# Altium schematic symbol library Capacitor - Aluminium.SchLib: 294 symbols (part 5 of 5)
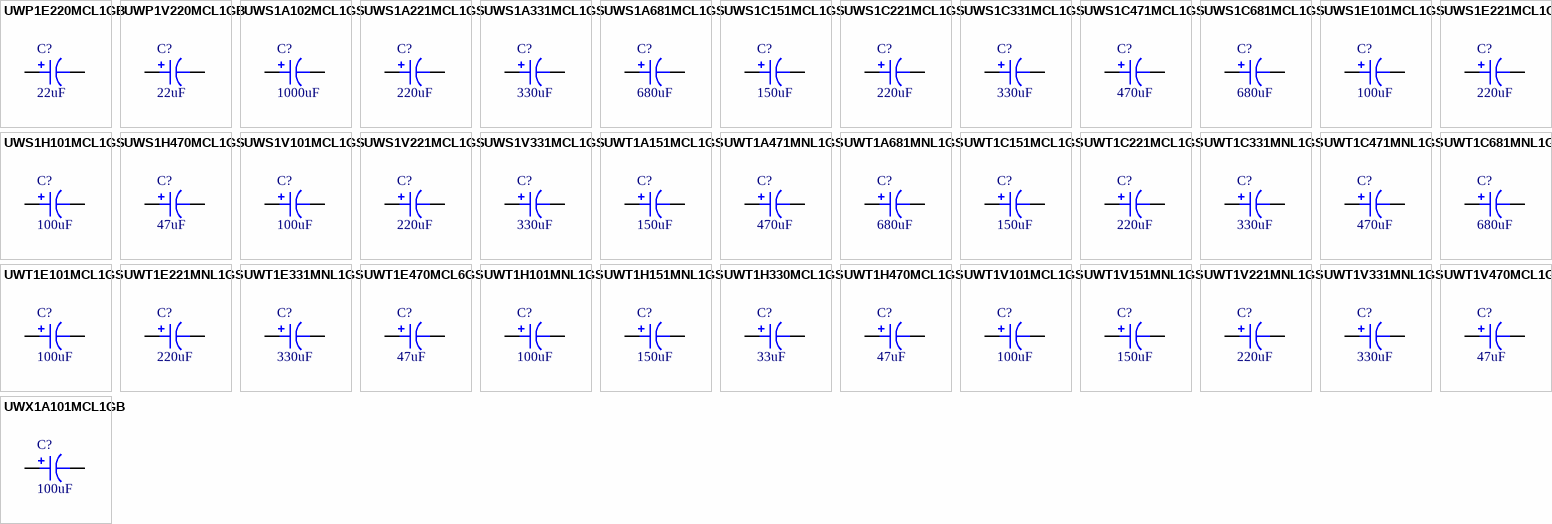
[diagram p11: symbols UWP1E220MCL1GB to UWX1A101MCL1GB]

## UWT1E470MCL6GS
designator C?, comment 47uF
CAP ALUM 47UF 20% 25V SMD; Part Number: UWT1E470MCL6GS; Manufacturer: Nichicon; TemperatureRange: -55C ~ 105C; Type: General Purpose; Ripple Current: 59mA; Lifetime @ Temp: 1000 Hrs @ 105C; Value: 47uF; PartId: 7297; Supplier 1: Digi-Key; Supplier Part Number 1: 493-9881-2-ND; ComponentLink1Description: Datasheet; ComponentLink1URL: http://nichicon-us.com/english/products/pdfs/e-wt.pdf; ComponentLink2Description: Digi-Key listing; ComponentLink2URL: http://digikey.com/product-detail/en/UWT1E470MCL6GS/493-9881-2-ND/2550848; Tolerance: 20%; Voltage: 25V; Price: 0.0964; Device Package: Radial, Can - SMD; Impedance: -
footprint CAP ALUM 8.3MM
pins: 1, 2

## UWT1H101MNL1GS
designator C?, comment 100uF
CAP ALUM 100UF 20% 50V SMD; Part Number: UWT1H101MNL1GS; Manufacturer: Nichicon; TemperatureRange: -55C ~ 105C; Type: General Purpose; Ripple Current: 140mA; Lifetime @ Temp: 1000 Hrs @ 105C; Value: 100uF; PartId: 7285; Supplier 1: Digi-Key; Supplier Part Number 1: 493-2226-2-ND; ComponentLink1Description: Datasheet; ComponentLink1URL: http://nichicon-us.com/english/products/pdfs/e-wt.pdf; ComponentLink2Description: Digi-Key listing; ComponentLink2URL: http://digikey.com/product-detail/en/UWT1H101MNL1GS/493-2226-2-ND/589967; Tolerance: 20%; Voltage: 50V; Price: 0.2178; Device Package: Radial, Can - SMD; Impedance: -
footprint CAP ALUM 8.3MM
pins: 1, 2

## UWT1H151MNL1GS
designator C?, comment 150uF
CAP ALUM 150UF 20% 50V SMD; Part Number: UWT1H151MNL1GS; Manufacturer: Nichicon; TemperatureRange: -55C ~ 105C; Type: General Purpose; Ripple Current: 180mA; Lifetime @ Temp: 1000 Hrs @ 105C; Value: 150uF; PartId: 7389; Supplier 1: Digi-Key; Supplier Part Number 1: 493-2227-2-ND; ComponentLink1Description: Datasheet; ComponentLink1URL: http://nichicon-us.com/english/products/pdfs/e-wt.pdf; ComponentLink2Description: Digi-Key listing; ComponentLink2URL: http://digikey.com/product-detail/en/UWT1H151MNL1GS/493-2227-2-ND/589968; Tolerance: 20%; Voltage: 50V; Price: 0.2685; Device Package: Radial, Can - SMD; Impedance: -
footprint CAP ALUM 10.3MM
pins: 1, 2

## UWT1H330MCL1GS
designator C?, comment 33uF
CAP ALUM 33UF 20% 50V SMD; Part Number: UWT1H330MCL1GS; Manufacturer: Nichicon; TemperatureRange: -55C ~ 105C; Type: General Purpose; Ripple Current: 60mA; Lifetime @ Temp: 1000 Hrs @ 105C; Value: 33uF; PartId: 7213; Supplier 1: Digi-Key; Supplier Part Number 1: 493-2224-2-ND; ComponentLink1Description: Datasheet; ComponentLink1URL: http://nichicon-us.com/english/products/pdfs/e-wt.pdf; ComponentLink2Description: Digi-Key listing; ComponentLink2URL: http://digikey.com/product-detail/en/UWT1H330MCL1GS/493-2224-2-ND/589965; Tolerance: 20%; Voltage: 50V; Price: 0.1294; Device Package: Radial, Can - SMD; Impedance: -
footprint CAP ALUM 6.6MM
pins: 1, 2

## UWT1H470MCL1GS
designator C?, comment 47uF
CAP ALUM 47UF 20% 50V SMD; Part Number: UWT1H470MCL1GS; Manufacturer: Nichicon; TemperatureRange: -55C ~ 105C; Type: General Purpose; Ripple Current: 63mA; Lifetime @ Temp: 1000 Hrs @ 105C; Value: 47uF; PartId: 7227; Supplier 1: Digi-Key; Supplier Part Number 1: 493-2225-2-ND; ComponentLink1Description: Datasheet; ComponentLink1URL: http://nichicon-us.com/english/products/pdfs/e-wt.pdf; ComponentLink2Description: Digi-Key listing; ComponentLink2URL: http://digikey.com/product-detail/en/UWT1H470MCL1GS/493-2225-2-ND/589966; Tolerance: 20%; Voltage: 50V; Price: 0.154; Device Package: Radial, Can - SMD; Impedance: -
footprint CAP ALUM 6.6MM
pins: 1, 2

## UWT1V101MCL1GS
designator C?, comment 100uF
CAP ALUM 100UF 20% 35V SMD; Part Number: UWT1V101MCL1GS; Manufacturer: Nichicon; TemperatureRange: -55C ~ 105C; Type: General Purpose; Ripple Current: 84mA; Lifetime @ Temp: 1000 Hrs @ 105C; Value: 100uF; PartId: 7214; Supplier 1: Digi-Key; Supplier Part Number 1: 493-2203-2-ND; ComponentLink1Description: Datasheet; ComponentLink1URL: http://nichicon-us.com/english/products/pdfs/e-wt.pdf; ComponentLink2Description: Digi-Key listing; ComponentLink2URL: http://digikey.com/product-detail/en/UWT1V101MCL1GS/493-2203-2-ND/589944; Tolerance: 20%; Voltage: 35V; Price: 0.1299; Device Package: Radial, Can - SMD; Impedance: -
footprint CAP ALUM 6.6MM
pins: 1, 2

## UWT1V151MNL1GS
designator C?, comment 150uF
CAP ALUM 150UF 20% 35V SMD; Part Number: UWT1V151MNL1GS; Manufacturer: Nichicon; TemperatureRange: -55C ~ 105C; Type: General Purpose; Ripple Current: 155mA; Lifetime @ Temp: 1000 Hrs @ 105C; Value: 150uF; PartId: 7289; Supplier 1: Digi-Key; Supplier Part Number 1: 493-2204-2-ND; ComponentLink1Description: Datasheet; ComponentLink1URL: http://nichicon-us.com/english/products/pdfs/e-wt.pdf; ComponentLink2Description: Digi-Key listing; ComponentLink2URL: http://digikey.com/product-detail/en/UWT1V151MNL1GS/493-2204-2-ND/589945; Tolerance: 20%; Voltage: 35V; Price: 0.2201; Device Package: Radial, Can - SMD; Impedance: -
footprint CAP ALUM 8.3MM
pins: 1, 2

## UWT1V221MNL1GS
designator C?, comment 220uF
CAP ALUM 220UF 20% 35V SMD; Part Number: UWT1V221MNL1GS; Manufacturer: Nichicon; TemperatureRange: -55C ~ 105C; Type: General Purpose; Ripple Current: 190mA; Lifetime @ Temp: 1000 Hrs @ 105C; Value: 220uF; PartId: 7288; Supplier 1: Digi-Key; Supplier Part Number 1: 493-2205-2-ND; ComponentLink1Description: Datasheet; ComponentLink1URL: http://nichicon-us.com/english/products/pdfs/e-wt.pdf; ComponentLink2Description: Digi-Key listing; ComponentLink2URL: http://digikey.com/product-detail/en/UWT1V221MNL1GS/493-2205-2-ND/589946; Tolerance: 20%; Voltage: 35V; Price: 0.2201; Device Package: Radial, Can - SMD; Impedance: -
footprint CAP ALUM 8.3MM
pins: 1, 2

## UWT1V331MNL1GS
designator C?, comment 330uF
CAP ALUM 330UF 20% 35V SMD; Part Number: UWT1V331MNL1GS; Manufacturer: Nichicon; TemperatureRange: -55C ~ 105C; Type: General Purpose; Ripple Current: 300mA; Lifetime @ Temp: 1000 Hrs @ 105C; Value: 330uF; PartId: 7386; Supplier 1: Digi-Key; Supplier Part Number 1: 493-2206-2-ND; ComponentLink1Description: Datasheet; ComponentLink1URL: http://nichicon-us.com/english/products/pdfs/e-wt.pdf; ComponentLink2Description: Digi-Key listing; ComponentLink2URL: http://digikey.com/product-detail/en/UWT1V331MNL1GS/493-2206-2-ND/589947; Tolerance: 20%; Voltage: 35V; Price: 0.2685; Device Package: Radial, Can - SMD; Impedance: -
footprint CAP ALUM 10.3MM
pins: 1, 2

## UWT1V470MCL1GS
designator C?, comment 47uF
CAP ALUM 47UF 20% 35V SMD; Part Number: UWT1V470MCL1GS; Manufacturer: Nichicon; TemperatureRange: -55C ~ 105C; Type: General Purpose; Ripple Current: 63mA; Lifetime @ Temp: 1000 Hrs @ 105C; Value: 47uF; PartId: 7200; Supplier 1: Digi-Key; Supplier Part Number 1: 493-2202-2-ND; ComponentLink1Description: Datasheet; ComponentLink1URL: http://nichicon-us.com/english/products/pdfs/e-wt.pdf; ComponentLink2Description: Digi-Key listing; ComponentLink2URL: http://digikey.com/product-detail/en/UWT1V470MCL1GS/493-2202-2-ND/589943; Tolerance: 20%; Voltage: 35V; Price: 0.1117; Device Package: Radial, Can - SMD; Impedance: -
footprint CAP ALUM 6.6MM
pins: 1, 2

## UWX1A101MCL1GB
designator C?, comment 100uF
CAP ALUM 100UF 20% 10V SMD; Part Number: UWX1A101MCL1GB; Manufacturer: Nichicon; TemperatureRange: -40C ~ 85C; Type: General Purpose; Ripple Current: 76mA; Lifetime @ Temp: 2000 Hrs @ 85C; Value: 100uF; PartId: 7195; Supplier 1: Digi-Key; Supplier Part Number 1: 493-2096-2-ND; ComponentLink1Description: Datasheet; ComponentLink1URL: http://nichicon-us.com/english/products/pdfs/e-wx.pdf; ComponentLink2Description: Digi-Key listing; ComponentLink2URL: http://digikey.com/product-detail/en/UWX1A101MCL1GB/493-2096-2-ND/589837; Tolerance: 20%; Voltage: 10V; Price: 0.1042; Device Package: Radial, Can - SMD; Impedance: -
footprint CAP ALUM 6.6MM
pins: 1, 2

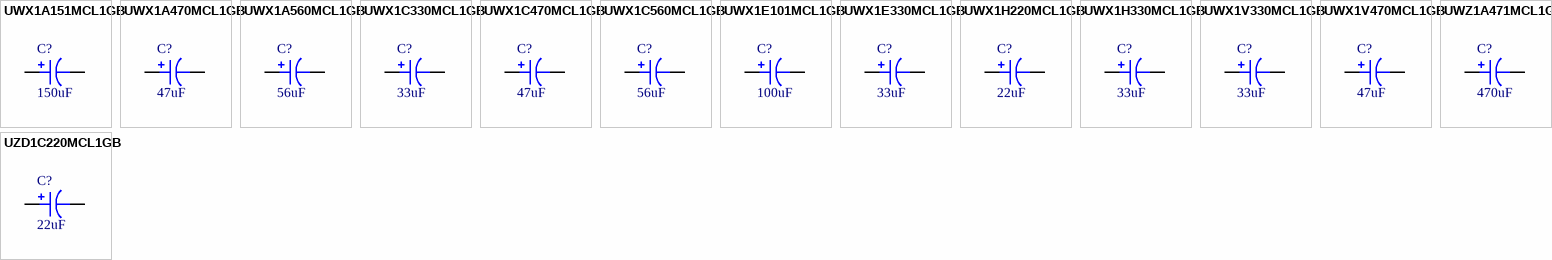
[diagram p7: symbols UWX1A151MCL1GB to UZD1C220MCL1GB]

## UWX1A151MCL1GB
designator C?, comment 150uF
CAP ALUM 150UF 20% 10V SMD; Part Number: UWX1A151MCL1GB; Manufacturer: Nichicon; TemperatureRange: -40C ~ 85C; Type: General Purpose; Ripple Current: 111mA; Lifetime @ Temp: 2000 Hrs @ 85C; Value: 150uF; PartId: 7302; Supplier 1: Digi-Key; Supplier Part Number 1: 493-2097-2-ND; ComponentLink1Description: Datasheet; ComponentLink1URL: http://nichicon-us.com/english/products/pdfs/e-wx.pdf; ComponentLink2Description: Digi-Key listing; ComponentLink2URL: http://digikey.com/product-detail/en/UWX1A151MCL1GB/493-2097-2-ND/589838; Tolerance: 20%; Voltage: 10V; Price: 0.1286; Device Package: Radial, Can - SMD; Impedance: -
footprint CAP ALUM 8.3MM
pins: 1, 2

## UWX1A470MCL1GB
designator C?, comment 47uF
CAP ALUM 47UF 20% 10V SMD; Part Number: UWX1A470MCL1GB; Manufacturer: Nichicon; TemperatureRange: -40C ~ 85C; Type: General Purpose; Ripple Current: 52mA; Lifetime @ Temp: 2000 Hrs @ 85C; Value: 47uF; PartId: 7194; Supplier 1: Digi-Key; Supplier Part Number 1: 493-2094-2-ND; ComponentLink1Description: Datasheet; ComponentLink1URL: http://nichicon-us.com/english/products/pdfs/e-wx.pdf; ComponentLink2Description: Digi-Key listing; ComponentLink2URL: http://digikey.com/product-detail/en/UWX1A470MCL1GB/493-2094-2-ND/589835; Tolerance: 20%; Voltage: 10V; Price: 0.1042; Device Package: Radial, Can - SMD; Impedance: -
footprint CAP ALUM 6.6MM
pins: 1, 2

## UWX1A560MCL1GB
designator C?, comment 56uF
CAP ALUM 56UF 20% 10V SMD; Part Number: UWX1A560MCL1GB; Manufacturer: Nichicon; TemperatureRange: -40C ~ 85C; Type: General Purpose; Ripple Current: 57mA; Lifetime @ Temp: 2000 Hrs @ 85C; Value: 56uF; PartId: 7197; Supplier 1: Digi-Key; Supplier Part Number 1: 493-2095-2-ND; ComponentLink1Description: Datasheet; ComponentLink1URL: http://nichicon-us.com/english/products/pdfs/e-wx.pdf; ComponentLink2Description: Digi-Key listing; ComponentLink2URL: http://digikey.com/product-detail/en/UWX1A560MCL1GB/493-2095-2-ND/589836; Tolerance: 20%; Voltage: 10V; Price: 0.1042; Device Package: Radial, Can - SMD; Impedance: -
footprint CAP ALUM 6.6MM
pins: 1, 2

## UWX1C330MCL1GB
designator C?, comment 33uF
CAP ALUM 33UF 20% 16V SMD; Part Number: UWX1C330MCL1GB; Manufacturer: Nichicon; TemperatureRange: -40C ~ 85C; Type: General Purpose; Ripple Current: 49mA; Lifetime @ Temp: 2000 Hrs @ 85C; Value: 33uF; PartId: 7190; Supplier 1: Digi-Key; Supplier Part Number 1: 493-2102-2-ND; ComponentLink1Description: Datasheet; ComponentLink1URL: http://nichicon-us.com/english/products/pdfs/e-wx.pdf; ComponentLink2Description: Digi-Key listing; ComponentLink2URL: http://digikey.com/product-detail/en/UWX1C330MCL1GB/493-2102-2-ND/589843; Tolerance: 20%; Voltage: 16V; Price: 0.0916; Device Package: Radial, Can - SMD; Impedance: -
footprint CAP ALUM 6.6MM
pins: 1, 2

## UWX1C470MCL1GB
designator C?, comment 47uF
CAP ALUM 47UF 20% 16V SMD; Part Number: UWX1C470MCL1GB; Manufacturer: Nichicon; TemperatureRange: -40C ~ 85C; Type: General Purpose; Ripple Current: 58mA; Lifetime @ Temp: 2000 Hrs @ 85C; Value: 47uF; PartId: 7191; Supplier 1: Digi-Key; Supplier Part Number 1: 493-2103-2-ND; ComponentLink1Description: Datasheet; ComponentLink1URL: http://nichicon-us.com/english/products/pdfs/e-wx.pdf; ComponentLink2Description: Digi-Key listing; ComponentLink2URL: http://digikey.com/product-detail/en/UWX1C470MCL1GB/493-2103-2-ND/589844; Tolerance: 20%; Voltage: 16V; Price: 0.0994; Device Package: Radial, Can - SMD; Impedance: -
footprint CAP ALUM 6.6MM
pins: 1, 2

## UWX1C560MCL1GB
designator C?, comment 56uF
CAP ALUM 56UF 20% 16V SMD; Part Number: UWX1C560MCL1GB; Manufacturer: Nichicon; TemperatureRange: -40C ~ 85C; Type: General Purpose; Ripple Current: 63mA; Lifetime @ Temp: 2000 Hrs @ 85C; Value: 56uF; PartId: 7198; Supplier 1: Digi-Key; Supplier Part Number 1: 493-2104-2-ND; ComponentLink1Description: Datasheet; ComponentLink1URL: http://nichicon-us.com/english/products/pdfs/e-wx.pdf; ComponentLink2Description: Digi-Key listing; ComponentLink2URL: http://digikey.com/product-detail/en/UWX1C560MCL1GB/493-2104-2-ND/589845; Tolerance: 20%; Voltage: 16V; Price: 0.1042; Device Package: Radial, Can - SMD; Impedance: -
footprint CAP ALUM 6.6MM
pins: 1, 2

## UWX1E101MCL1GB
designator C?, comment 100uF
CAP ALUM 100UF 20% 25V SMD; Part Number: UWX1E101MCL1GB; Manufacturer: Nichicon; TemperatureRange: -40C ~ 85C; Type: General Purpose; Ripple Current: 110mA; Lifetime @ Temp: 2000 Hrs @ 85C; Value: 100uF; PartId: 7303; Supplier 1: Digi-Key; Supplier Part Number 1: 493-2113-2-ND; ComponentLink1Description: Datasheet; ComponentLink1URL: http://nichicon-us.com/english/products/pdfs/e-wx.pdf; ComponentLink2Description: Digi-Key listing; ComponentLink2URL: http://digikey.com/product-detail/en/UWX1E101MCL1GB/493-2113-2-ND/589854; Tolerance: 20%; Voltage: 25V; Price: 0.1297; Device Package: Radial, Can - SMD; Impedance: -
footprint CAP ALUM 8.3MM
pins: 1, 2

## UWX1E330MCL1GB
designator C?, comment 33uF
CAP ALUM 33UF 20% 25V SMD; Part Number: UWX1E330MCL1GB; Manufacturer: Nichicon; TemperatureRange: -40C ~ 85C; Type: General Purpose; Ripple Current: 52mA; Lifetime @ Temp: 2000 Hrs @ 85C; Value: 33uF; PartId: 7196; Supplier 1: Digi-Key; Supplier Part Number 1: 493-2110-2-ND; ComponentLink1Description: Datasheet; ComponentLink1URL: http://nichicon-us.com/english/products/pdfs/e-wx.pdf; ComponentLink2Description: Digi-Key listing; ComponentLink2URL: http://digikey.com/product-detail/en/UWX1E330MCL1GB/493-2110-2-ND/589851; Tolerance: 20%; Voltage: 25V; Price: 0.1042; Device Package: Radial, Can - SMD; Impedance: -
footprint CAP ALUM 6.6MM
pins: 1, 2

## UWX1H220MCL1GB
designator C?, comment 22uF
CAP ALUM 22UF 20% 50V SMD; Part Number: UWX1H220MCL1GB; Manufacturer: Nichicon; TemperatureRange: -40C ~ 85C; Type: General Purpose; Ripple Current: 52mA; Lifetime @ Temp: 2000 Hrs @ 85C; Value: 22uF; PartId: 7298; Supplier 1: Digi-Key; Supplier Part Number 1: 493-2136-2-ND; ComponentLink1Description: Datasheet; ComponentLink1URL: http://nichicon-us.com/english/products/pdfs/e-wx.pdf; ComponentLink2Description: Digi-Key listing; ComponentLink2URL: http://digikey.com/product-detail/en/UWX1H220MCL1GB/493-2136-2-ND/589877; Tolerance: 20%; Voltage: 50V; Price: 0.1154; Device Package: Radial, Can - SMD; Impedance: -
footprint CAP ALUM 8.3MM
pins: 1, 2

## UWX1H330MCL1GB
designator C?, comment 33uF
CAP ALUM 33UF 20% 50V SMD; Part Number: UWX1H330MCL1GB; Manufacturer: Nichicon; TemperatureRange: -40C ~ 85C; Type: General Purpose; Ripple Current: 71mA; Lifetime @ Temp: 2000 Hrs @ 85C; Value: 33uF; PartId: 7301; Supplier 1: Digi-Key; Supplier Part Number 1: 493-2137-2-ND; ComponentLink1Description: Datasheet; ComponentLink1URL: http://nichicon-us.com/english/products/pdfs/e-wx.pdf; ComponentLink2Description: Digi-Key listing; ComponentLink2URL: http://digikey.com/product-detail/en/UWX1H330MCL1GB/493-2137-2-ND/589878; Tolerance: 20%; Voltage: 50V; Price: 0.1181; Device Package: Radial, Can - SMD; Impedance: -
footprint CAP ALUM 8.3MM
pins: 1, 2

## UWX1V330MCL1GB
designator C?, comment 33uF
CAP ALUM 33UF 20% 35V SMD; Part Number: UWX1V330MCL1GB; Manufacturer: Nichicon; TemperatureRange: -40C ~ 85C; Type: General Purpose; Ripple Current: 62mA; Lifetime @ Temp: 2000 Hrs @ 85C; Value: 33uF; PartId: 7299; Supplier 1: Digi-Key; Supplier Part Number 1: 493-2119-2-ND; ComponentLink1Description: Datasheet; ComponentLink1URL: http://nichicon-us.com/english/products/pdfs/e-wx.pdf; ComponentLink2Description: Digi-Key listing; ComponentLink2URL: http://digikey.com/product-detail/en/UWX1V330MCL1GB/493-2119-2-ND/589860; Tolerance: 20%; Voltage: 35V; Price: 0.1154; Device Package: Radial, Can - SMD; Impedance: -
footprint CAP ALUM 8.3MM
pins: 1, 2

## UWX1V470MCL1GB
designator C?, comment 47uF
CAP ALUM 47UF 20% 35V SMD; Part Number: UWX1V470MCL1GB; Manufacturer: Nichicon; TemperatureRange: -40C ~ 85C; Type: General Purpose; Ripple Current: 80mA; Lifetime @ Temp: 2000 Hrs @ 85C; Value: 47uF; PartId: 7300; Supplier 1: Digi-Key; Supplier Part Number 1: 493-2120-2-ND; ComponentLink1Description: Datasheet; ComponentLink1URL: http://nichicon-us.com/english/products/pdfs/e-wx.pdf; ComponentLink2Description: Digi-Key listing; ComponentLink2URL: http://digikey.com/product-detail/en/UWX1V470MCL1GB/493-2120-2-ND/589861; Tolerance: 20%; Voltage: 35V; Price: 0.1163; Device Package: Radial, Can - SMD; Impedance: -
footprint CAP ALUM 8.3MM
pins: 1, 2

## UWZ1A471MCL1GS
designator C?, comment 470uF
CAP ALUM 470UF 20% 10V SMD; Part Number: UWZ1A471MCL1GS; Manufacturer: Nichicon; TemperatureRange: -55C ~ 105C; Type: High Temperature Reflow; Ripple Current: 210mA; Lifetime @ Temp: 1000 Hrs @ 105C; Value: 470uF; PartId: 7327; Supplier 1: Digi-Key; Supplier Part Number 1: 493-9923-2-ND; ComponentLink1Description: Datasheet; ComponentLink1URL: http://nichicon-us.com/english/products/pdfs/e-wz.pdf; ComponentLink2Description: Digi-Key listing; ComponentLink2URL: http://digikey.com/product-detail/en/UWZ1A471MCL1GS/493-9923-2-ND/2550871; Tolerance: 20%; Voltage: 10V; Price: 0.2461; Device Package: Radial, Can - SMD; Impedance: -
footprint CAP ALUM 8.3MM
pins: 1, 2

## UZD1C220MCL1GB
designator C?, comment 22uF
CAP ALUM 22UF 20% 16V SMD; Part Number: UZD1C220MCL1GB; Manufacturer: Nichicon; TemperatureRange: -40C ~ 85C; Type: General Purpose; Ripple Current: 37mA; Lifetime @ Temp: 1000 Hrs @ 85C; Value: 22uF; PartId: 7270; Supplier 1: Digi-Key; Supplier Part Number 1: 493-10011-2-ND; ComponentLink1Description: Datasheet; ComponentLink1URL: http://nichicon-us.com/english/products/pdfs/e-zd.pdf; ComponentLink2Description: Digi-Key listing; ComponentLink2URL: http://digikey.com/product-detail/en/UZD1C220MCL1GB/493-10011-2-ND/2550928; Tolerance: 20%; Voltage: 16V; Price: 0.3185; Device Package: Radial, Can - SMD; Impedance: -
footprint CAP ALUM 6.6MM
pins: 1, 2